# Altium schematic symbol library ECS-250-8-36CKM-TR3.SchLib: 1 symbol
Pins are listed as number, name and electrical type; pins without a type are passive.

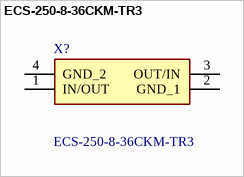
[diagram p0: symbol ECS-250-8-36CKM-TR3]

## ECS-250-8-36CKM-TR3
designator X?
Crystals 25MHz,CL 8,TOL +/-10 ppm,STAB +/-10 ppm,-20 +70 C,ESR O60; Manufacturer_Name: ECS; Geometry.Height: 0.6mm; Mouser Part Number: 520-250-8-36CKM-TR3; Mouser Price/Stock: https://www.mouser.co.uk/ProductDetail/ECS/ECS-250-8-36CKM-TR3?qs=e8oIoAS2J1SEILtnBWQaUQ%3D%3D; Manufacturer_Part_Number: ECS-250-8-36CKM-TR3; Datasheet Link: *
footprint ECS250836CKMTR3
pins: 1 IN/OUT, 2 GND_1, 3 OUT/IN, 4 GND_2